# Altium schematic symbol library SCH - MCU - STM32 - ST MICROELECTRONICS STM32L432K(B-C)UX UFQFPN32.SchLib: 1 symbol
Pins are listed as number, name and electrical type; pins without a type are passive.

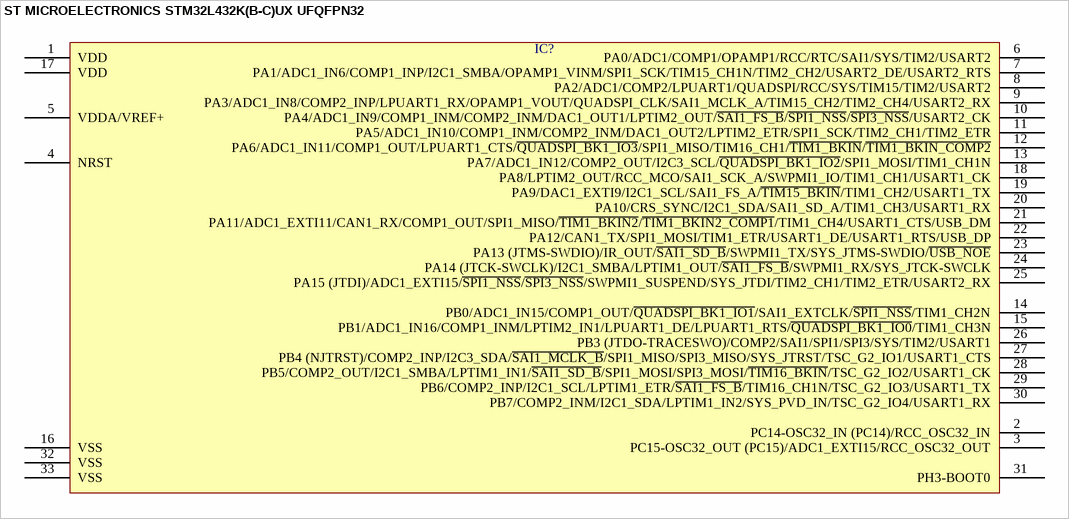
[diagram p0: symbol ST MICROELECTRONICS STM32L432K(B-C)UX UFQFPN32]

## ST MICROELECTRONICS STM32L432K(B-C)UX UFQFPN32
designator IC?  (value not drawn)
pins: 1 VDD, 2 PC14-OSC32_IN (PC14)/RCC_OSC32_IN, 3 PC15-OSC32_OUT (PC15)/ADC1_EXTI15/RCC_OSC32_OUT, 4 NRST, 5 VDDA/VREF+, 6 PA0/ADC1/COMP1/OPAMP1/RCC/RTC/SAI1/SYS/TIM2/USART2, 7 PA1/ADC1_IN6/COMP1_INP/I2C1_SMBA/OPAMP1_VINM/SPI1_SCK/TIM15_CH1N/TIM2_CH2/USART2_DE/USART2_RTS, 8 PA2/ADC1/COMP2/LPUART1/QUADSPI/RCC/SYS/TIM15/TIM2/USART2, 9 PA3/ADC1_IN8/COMP2_INP/LPUART1_RX/OPAMP1_VOUT/QUADSPI_CLK/SAI1_MCLK_A/TIM15_CH2/TIM2_CH4/USART2_RX, 10 PA4/ADC1_IN9/COMP1_INM/COMP2_INM/DAC1_OUT1/LPTIM2_OUT/~{SAI1_FS_B}/~{SPI1_NSS}/~{SPI3_NSS}/USART2_CK, 11 PA5/ADC1_IN10/COMP1_INM/COMP2_INM/DAC1_OUT2/LPTIM2_ETR/SPI1_SCK/TIM2_CH1/TIM2_ETR, 12 PA6/ADC1_IN11/COMP1_OUT/LPUART1_CTS/~{QUADSPI_BK1_IO3}/SPI1_MISO/TIM16_CH1/~{TIM1_BKIN}/~{TIM1_BKIN_COMP2}, 13 PA7/ADC1_IN12/COMP2_OUT/I2C3_SCL/~{QUADSPI_BK1_IO2}/SPI1_MOSI/TIM1_CH1N, 14 PB0/ADC1_IN15/COMP1_OUT/~{QUADSPI_BK1_IO1}/SAI1_EXTCLK/~{SPI1_NSS}/TIM1_CH2N, 15 PB1/ADC1_IN16/COMP1_INM/LPTIM2_IN1/LPUART1_DE/LPUART1_RTS/~{QUADSPI_BK1_IO0}/TIM1_CH3N, 16 VSS, 17 VDD, 18 PA8/LPTIM2_OUT/RCC_MCO/SAI1_SCK_A/SWPMI1_IO/TIM1_CH1/USART1_CK, 19 PA9/DAC1_EXTI9/I2C1_SCL/SAI1_FS_A/~{TIM15_BKIN}/TIM1_CH2/USART1_TX, 20 PA10/CRS_SYNC/I2C1_SDA/SAI1_SD_A/TIM1_CH3/USART1_RX, 21 PA11/ADC1_EXTI11/CAN1_RX/COMP1_OUT/SPI1_MISO/~{TIM1_BKIN2}/~{TIM1_BKIN2_COMP1}/TIM1_CH4/USART1_CTS/USB_DM, 22 PA12/CAN1_TX/SPI1_MOSI/TIM1_ETR/USART1_DE/USART1_RTS/USB_DP, 23 PA13 (JTMS-SWDIO)/IR_OUT/~{SAI1_SD_B}/SWPMI1_TX/SYS_JTMS-SWDIO/~{USB_NOE}, 24 PA14 (JTCK-SWCLK)/I2C1_SMBA/LPTIM1_OUT/~{SAI1_FS_B}/SWPMI1_RX/SYS_JTCK-SWCLK, 25 PA15 (JTDI)/ADC1_EXTI15/~{SPI1_NSS}/~{SPI3_NSS}/SWPMI1_SUSPEND/SYS_JTDI/TIM2_CH1/TIM2_ETR/USART2_RX, 26 PB3 (JTDO-TRACESWO)/COMP2/SAI1/SPI1/SPI3/SYS/TIM2/USART1, 27 PB4 (NJTRST)/COMP2_INP/I2C3_SDA/~{SAI1_MCLK_B}/SPI1_MISO/SPI3_MISO/SYS_JTRST/TSC_G2_IO1/USART1_CTS, 28 PB5/COMP2_OUT/I2C1_SMBA/LPTIM1_IN1/~{SAI1_SD_B}/SPI1_MOSI/SPI3_MOSI/~{TIM16_BKIN}/TSC_G2_IO2/USART1_CK, 29 PB6/COMP2_INP/I2C1_SCL/LPTIM1_ETR/~{SAI1_FS_B}/TIM16_CH1N/TSC_G2_IO3/USART1_TX, 30 PB7/COMP2_INM/I2C1_SDA/LPTIM1_IN2/SYS_PVD_IN/TSC_G2_IO4/USART1_RX, 31 PH3-BOOT0, 32 VSS, 33 VSS